# Altium footprint library DIP-JP NO 0607.PCBLIB: 61 footprints (part 4 of 4)
Each footprint in its own frame and in the unit in brackets; x right, y up, seen from the top. Pads: shape width x height; smd on the part's side, far side on the other; paste and mask are expansions set on the pad; w line width, h text height; cw(c..) or ccw(c..) is an arc to the next point about the centre after c.
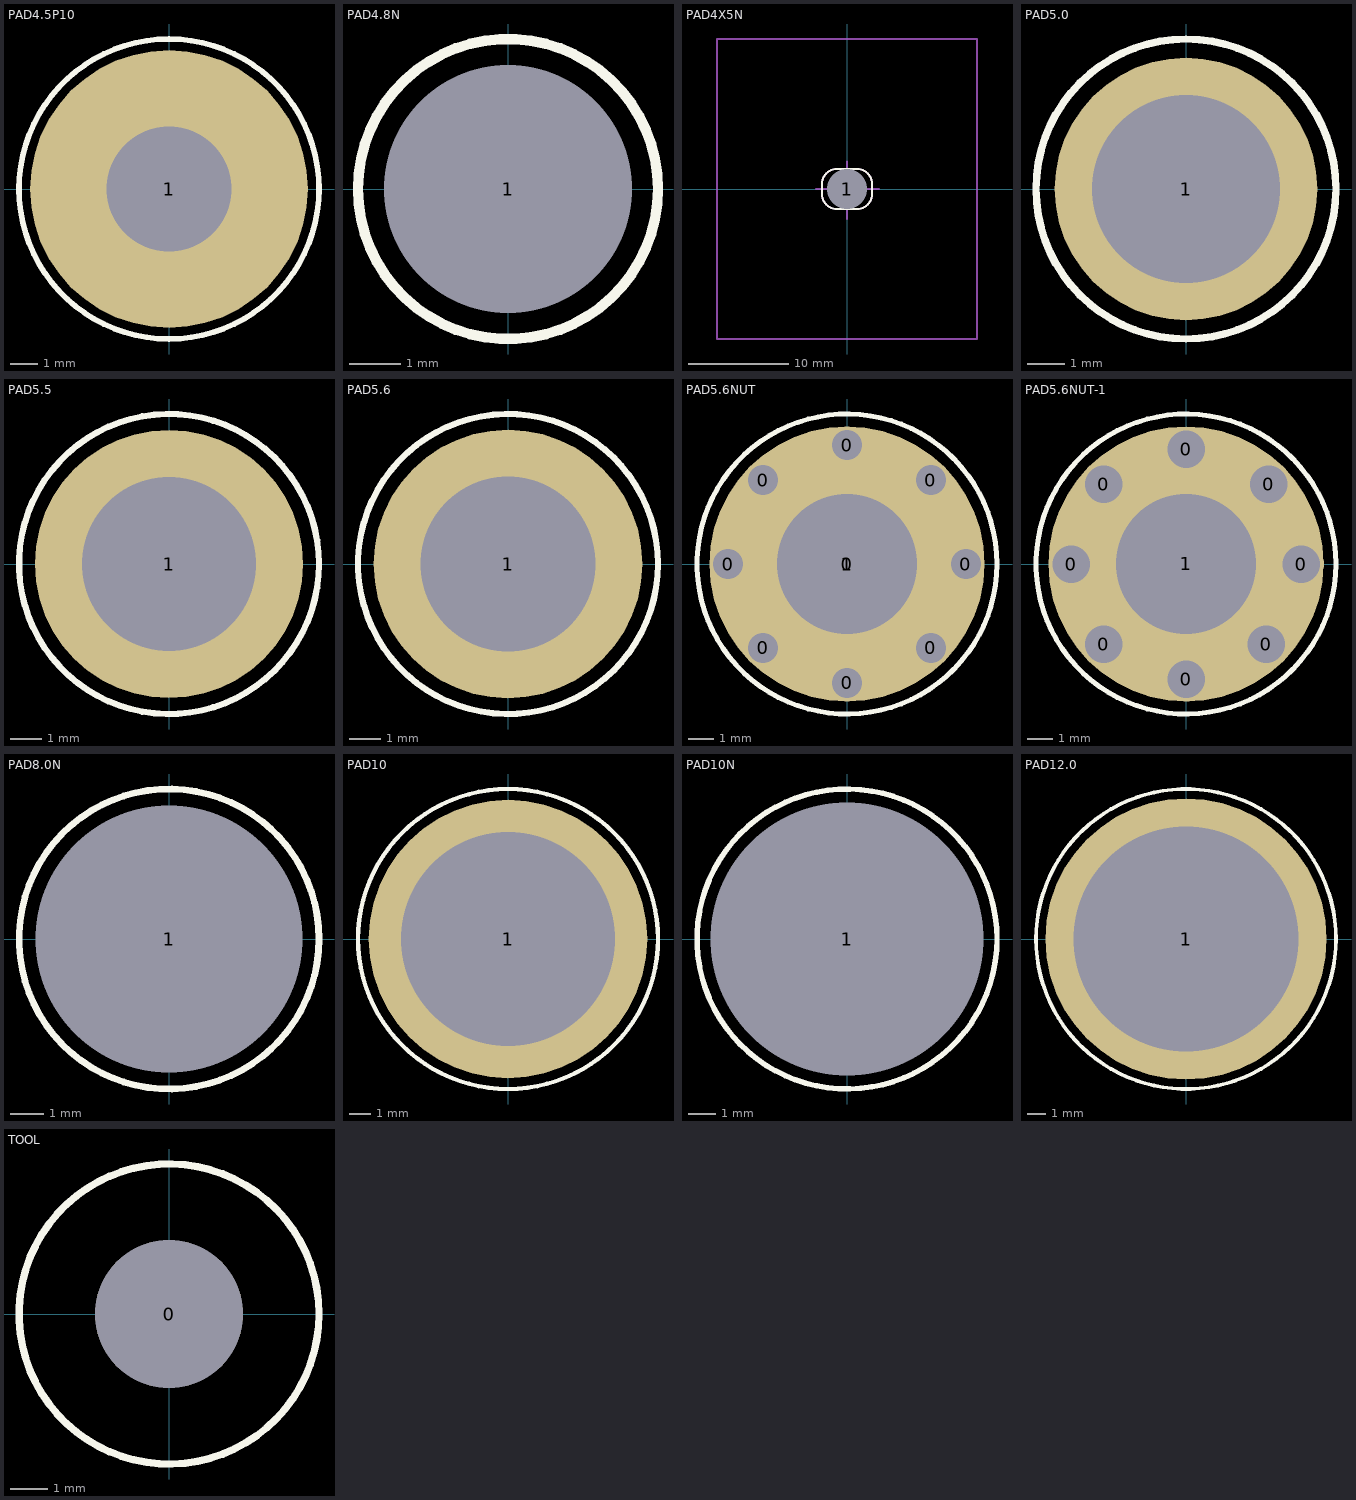
[diagram p3: the footprints below, top view; thin cyan lines are the x and y axes]

## PAD4.5P10 [mm]
pads (1):
  round 10 hole 4.5: 1(0,0)
Top Overlay:
  circle w0.2: c0,0 r5.4

## PAD4.8N [mm]
pads (1):
  round 2 hole 4.8 unplated: 1(0,0)
Top Overlay:
  circle w0.2: c0,0 r2.9
Drill Drawing:
  circle w0.2: c0,0 r2.4
  text "NPTH" at -2,-4.25 h1.2

## PAD4X5N [mm]
pads (1):
  round 3 hole 4 unplated: 1(0,0)
Top Overlay:
  lines w0.2: -2.5,-0.5 ccw(c-1,-0.5) -1,-2 1,-2 ccw(c1,-0.5) 2.5,-0.5 2.5,0.5 ccw(c1,0.5) 1,2 -1,2 ccw(c-1,0.5) -2.5,0.5 -2.5,-0.5
Mechanical 1:
  lines w0.2: -2.5,-0.5 ccw(c-1,-0.5) -1,-2 1,-2 ccw(c1,-0.5) 2.5,-0.5 2.5,0.5 ccw(c1,0.5) 1,2 -1,2 ccw(c-1,0.5) -2.5,0.5 -2.5,-0.5
  text "D=5X4" at -8,-1.75 h1.2
  text "NPTH" at -8,0.5 h1.2
Mechanical 2:
  lines w0.2: -3.1,0 0,0 ; 0,-3 0,0 ; 0,2.75 0,0 ; 3.2,0 0,0 ; -2.5,-0.5 ccw(c-1,-0.5) -1,-2 1,-2 ccw(c1,-0.5) 2.5,-0.5 2.5,0.5 ccw(c1,0.5) 1,2 -1,2 ccw(c-1,0.5) -2.5,0.5 -2.5,-0.5
  text "NPTH" at -8,0.5 h1.2
  text "D=5X4" at -8,-1.75 h1.2
Mechanical 5:
  lines w0.2: -13,-15 13,-15 13,15 -13,15 -13,-15
Drill Drawing:
  lines w0.2: -2.5,-0.5 ccw(c-1,-0.5) -1,-2 1,-2 ccw(c1,-0.5) 2.5,-0.5 2.5,0.5 ccw(c1,0.5) 1,2 -1,2 ccw(c-1,0.5) -2.5,0.5 -2.5,-0.5
  text "NPTH" at -8,0.5 h1.2
  text "D=5X4" at -8,-1.75 h1.2

## PAD5.0 [mm]
pads (1):
  round 7 hole 5: 1(0,0)
Top Overlay:
  circle w0.2: c0,0 r4

## PAD5.5 [mm]
pads (1):
  round 8.5 hole 5.5: 1(0,0)
Top Overlay:
  circle w0.2: c0,0 r4.75

## PAD5.6 [mm]
pads (1):
  round 8.6 hole 5.6: 1(0,0)
Top Overlay:
  circle w0.2: c0,0 r4.8

## PAD5.6NUT [mm]
pads (10):
  round 1.5 hole 1.2: 0(-4.75,0) 0(-3.359,-3.359) 0(-3.359,3.359) 0(0,-4.75) 0(0,4.75) 0(3.359,-3.359) 0(3.359,3.359) 0(4.75,0)
  round 11 on Top Solder: 0(0,0)
  round 11 hole 5.6: 1(0,0)
Top Overlay:
  circle w0.2: c0,0 r6

## PAD5.6NUT-1 [mm]
pads (9):
  round 1.8 hole 1.5: 0(-4.595,0.001) 0(-3.295,-3.199) 0(-3.295,3.201) 0(0.005,-4.599) 0(0.005,4.601) 0(3.205,-3.199) 0(3.305,3.201) 0(4.605,0.001)
  round 11 hole 5.6: 1(-0.013,0.005)
Top Overlay:
  circle w0.2: c-0.013,0.005 r6

## PAD8.0N [mm]
pads (1):
  round 2 hole 8 unplated: 1(0,0)
Top Overlay:
  circle w0.2: c0,0 r4.5
Drill Drawing:
  circle w0.2: c0,0 r4
  text "NPTH" at -2.25,-6.25 h1.2

## PAD10 [mm]
pads (1):
  round 13 hole 10: 1(0,0)
Top Overlay:
  circle w0.2: c0,0 r7

## PAD10N [mm]
pads (1):
  round 2 hole 10 unplated: 1(0,0)
Top Overlay:
  circle w0.2: c0,0 r5.5
Drill Drawing:
  circle w0.2: c0,0 r5
  text "NPTH" at -2,-7 h1.2

## PAD12.0 [mm]
pads (1):
  round 15 hole 12: 1(0,0)
Top Overlay:
  circle w0.2: c0,0 r8

## TOOL [mm]
pads (1):
  round 4 hole 4: 0(0,0)
Top Overlay:
  circle w0.2: c0,0 r4.064
Top Solder:
  lines w0.508: -3.734,0.305 -0.305,3.734 ; -3.658,-0.787 0.762,3.632 ; -3.353,-1.626 1.626,3.353 ; -3.099,2.108 -2.108,3.099 ; -2.921,-2.362 2.362,2.921 ; -2.337,-2.921 2.921,2.337 ; -1.651,-3.378 3.378,1.651 ; -0.813,-3.658 3.658,0.813 ; 0.229,-3.759 3.734,-0.254 ; 2.057,-3.073 3.099,-2.032
Bottom Solder:
  lines w0.508: -3.734,0.305 -0.305,3.734 ; -3.658,-0.787 0.762,3.632 ; -3.353,-1.626 1.626,3.353 ; -3.099,2.108 -2.108,3.099 ; -2.921,-2.362 2.362,2.921 ; -2.337,-2.921 2.921,2.337 ; -1.651,-3.378 3.378,1.651 ; -0.813,-3.658 3.658,0.813 ; 0.229,-3.759 3.734,-0.254 ; 2.057,-3.073 3.099,-2.032